# Altium schematic symbol library e-switch-tact.SchLib: 5 symbols
Pins are listed as number, name and electrical type; pins without a type are passive.

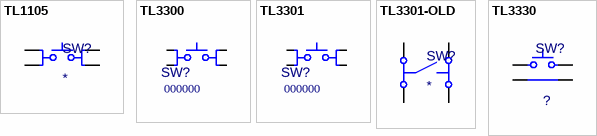
[diagram p0: symbols TL1105 to TL3330]

## TL1105
designator SW?
Tact Switch; PN: *; Value: *; ExtraInfo: *; Package: *
footprint TL1105G (Tact Switch 6mm x 6mm)
footprint TL1105C (Tact Switch 6mm x 6mm x 8mm)
pins: 1, 2, 3, 4

## TL3300
designator SW?, comment 000000
12mm x 12mm tactile switch; Value: TL3300; PN: 000000; Package: SMT; ExtraInfo: *
footprint TL3300-C-FXXXQ (SMD Tact Switch 12mm x 12mm, Gull Wing Termination)
footprint TL1105G (Tact Switch 6mm x 6mm)
footprint TL1105C (Tact Switch 6mm x 6mm x 8mm)
footprint TL3300-A-FXXXQ (SMD Tact Switch 12mm x 12mm, isometric)
pins: 1, 2, 3, 4

## TL3301
designator SW?, comment 000000
Tact Switch; Value: TL3301; PN: 000000; ExtraInfo: *; Package: *
footprint TL3301-X-FXX-R-G (SMD Tact Switch 6mm x 6mm, Gull Wing Termination)
footprint TL1105G (Tact Switch 6mm x 6mm)
footprint TL1105C (Tact Switch 6mm x 6mm x 8mm)
pins: 1, 2, 3, 4

## TL3301-OLD
designator SW?
Tact Switch; PN: *; Value: *; ExtraInfo: *; Package: *
footprint TL3301-X-FXX-R-G (SMD Tact Switch 6mm x 6mm, Gull Wing Termination)
pins: 1, 2, 3, 4

## TL3330
designator SW?, comment ?
Tact Switch SMT - Right Angle; Value: TL330; MF: E-Switch; PN: ?; ExtraInfo: *; Package: SMT
footprint TL3330 (Tact Swithc SMT - Right Angle)
pins: 1, 2, 3, 4